# Altium schematic symbol library Crystal_2P.Schlib: 1 symbol
Pins are listed as number, name and electrical type; pins without a type are passive.

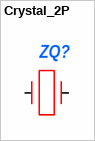
[diagram p0: symbol Crystal_2P]

## Crystal_2P
designator ZQ?  (value not drawn)
Кварцевый резонатор
pins: 1, 2 (power) hidden, 2, 4 (power) hidden